# Altium schematic symbol library New_Parts.SchLib: 2 symbols
Pins are listed as number, name and electrical type; pins without a type are passive.

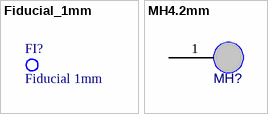
[diagram p0: symbols Fiducial_1mm to MH4.2mm]

## Fiducial_1mm
designator FI?, comment Fiducial 1mm
1mm Fiducial; Category: Misc; Package: SMD
footprint Fiducial (Fiducial, 1mm)

## MH4.2mm
designator MH?, comment MountingHole  (value not drawn)
Mounting hole, 4.2mm; Case: TH
footprint MH4.2MM (Mounting Hole, 4.2mm)
pins: 1